# EAGLE library part USB+SHIELD (library LaborUSB)
USB+Shield USB connector with shield pins connectable
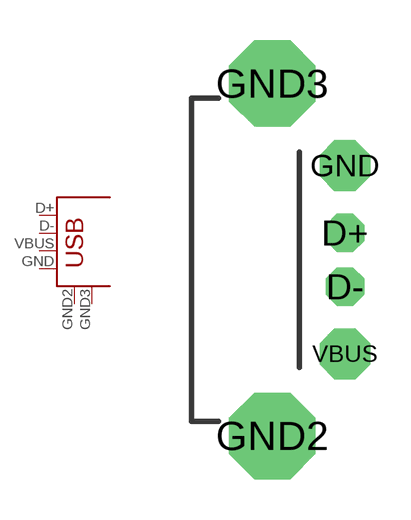
[diagram p0: symbol with the pads of USB-A-VERTICAL; footprint USB-A-VERTICAL]

Designator prefix -

## USB+SHIELD  [USB-A-VERTICAL]
D+  D+
D-  D-
GND  GND
GND2  P$1
GND3  P$2
VBUS  VBUS

## Footprint USB-A-VERTICAL (pad centres in mm)
USB Series A Hole Mounted
drill 0.92 octagon: D+ 2.7,1; D- 2.7,-1
drill 0.92 pad 1.88 octagon: GND 2.7,3.5; VBUS 2.7,-3.5
drill 2.2 octagon: GND2 0,-6.55; GND3 0,6.55